# Altium schematic symbol library Boost Switching Regulators.SchLib: 8 symbols
Pins are listed as number, name and electrical type; pins without a type are passive.

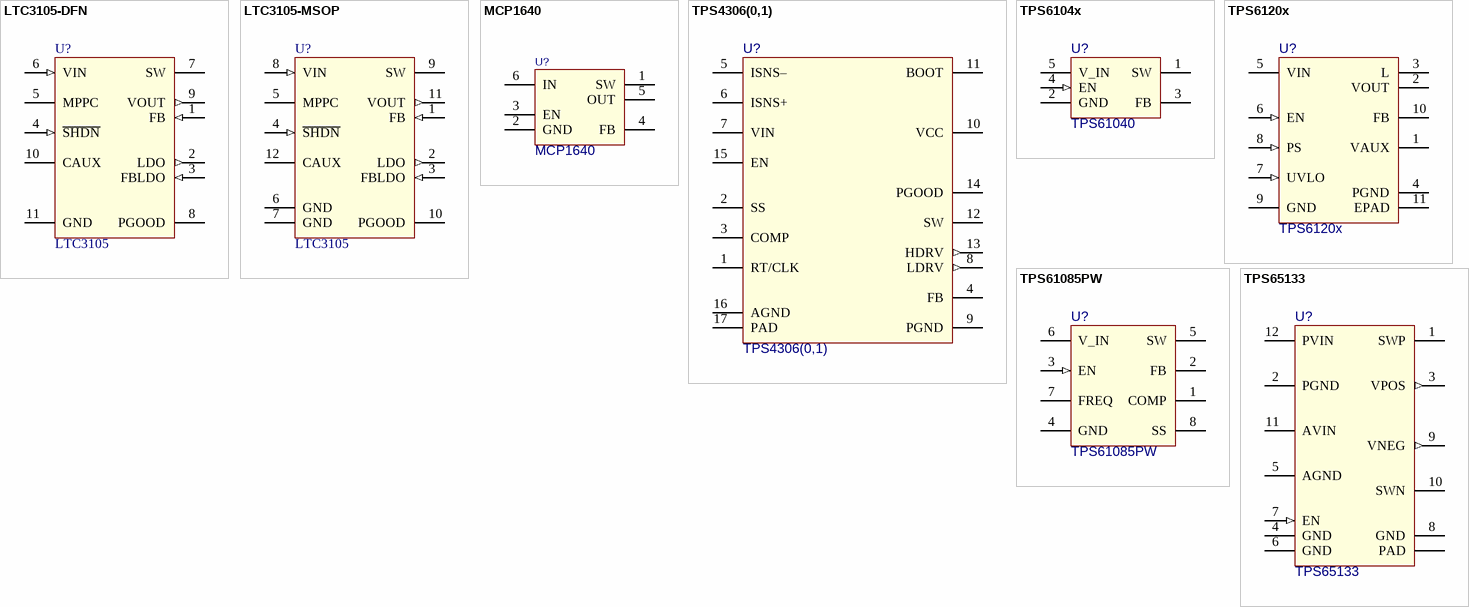
[diagram p0: symbols LTC3105-DFN to TPS65133]

## LTC3105-DFN
designator U?  value LTC3105  (hidden comment: LTC3105-DFN)
400mA Step-Up DC/DC  Converter with Maximum Power  Point Control and 250mV Start-Up
footprint DFN-10-3x3 (05-08-1699) (Footprint not found)
pins: 1 FB (in), 2 LDO (out), 3 FBLDO (in), 4 ~{SHDN} (in), 5 MPPC, 6 VIN (in), 7 SW, 8 PGOOD (oc), 9 VOUT (out), 10 CAUX, 11 GND (power)

## LTC3105-MSOP
designator U?  value LTC3105  (hidden comment: LTC3105-MSOP)
400mA Step-Up DC/DC  Converter with Maximum Power  Point Control and 250mV Start-Up
footprint MSOP-12 (05-08-1668) (Footprint not found)
pins: 1 FB (in), 2 LDO (out), 3 FBLDO (in), 4 ~{SHDN} (in), 5 MPPC, 6 GND (power), 7 GND (power), 8 VIN (in), 9 SW, 10 PGOOD (oc), 11 VOUT (out), 12 CAUX

## MCP1640
designator U?
0.65V Start-Up Synchronous Boost Regulator / with True Output Disconnect or Input/Output Bypass Option; Value: MCP1640
footprint SOT-23-6 (Footprint not found)
pins: 1 SW, 2 GND (power), 3 EN, 4 FB, 5 OUT, 6 IN

## TPS4306(0,1)
designator U?
Low Quiescent Current Synchronous Boost / DC-DC Controller With Wide VIN Range; Value: TPS4306(0,1)
footprint PWQFN-16 (RTE) (Footprint not found)
pins: 1 RT/CLK, 2 SS, 3 COMP, 4 FB, 5 ISNS–, 6 ISNS+, 7 VIN (power), 8 LDRV (out), 9 PGND, 10 VCC (power), 11 BOOT, 12 SW, 13 HDRV (out), 14 PGOOD (oc), 15 EN, 16 AGND (power), 17 PAD (power)

## TPS6104x
designator U?, comment value TPS61040  (hidden comment: TPS61040, TPS61041)
Low-Power DC-DC Boost Converter in SOT-23 and WSON Packages
footprint SOT-23-5 (Footprint not found)
pins: 1 SW, 2 GND (power), 3 FB, 4 EN (in), 5 V_IN (power)

## TPS6120x
designator U?, comment value TPS6120x  (hidden comment: TPS61200, TPS61201, TPS61202)
Low Input Voltage Synchronous Boost Converter / With 1.3-A Switches
footprint VSON-10-3x3 (Footprint not found)
pins: 1 VAUX, 2 VOUT (power), 3 L, 4 PGND (power), 5 VIN (power), 6 EN (in), 7 UVLO (in), 8 PS (in), 9 GND (power), 10 FB, 11 EPAD (power)

## TPS61085PW
designator U?
TPS61085 650-kHz,1.2-MHz, 18.5-V Step-Up DC-DC Converter; Value: TPS61085PW
footprint TSSOP-8 (Footprint not found)
pins: 1 COMP, 2 FB, 3 EN (in), 4 GND (power), 5 SW, 6 V_IN (power), 7 FREQ, 8 SS

## TPS65133
designator U?
±5V, 250-mA Dual-Output Power Supply; Value: TPS65133
footprint WSON-12 (DPD0012A) (Footprint not found)
pins: 1 SWP, 2 PGND (power), 3 VPOS (out), 4 GND (power), 5 AGND (power), 6 GND (power), 7 EN (in), 8 GND (power), 9 VNEG (out), 10 SWN, 11 AVIN (power), 12 PVIN (power), PAD (power)